# Altium integrated library EVPBB2A9B000.IntLib: 1 symbol
Pins are listed as number, name and electrical type; pins without a type are passive.

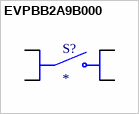
[diagram p0: symbol EVPBB2A9B000]

## EVPBB2A9B000
designator S?
Tactile Switch SPST-NO Top Actuated Surface Mount; MF: Panasonic; MP: EVPBB2A9B000; SnapEDA_Link: https://www.snapeda.com/parts/EVPBB2A9B000/Panasonic/view-part/?ref=snap; Package: None; Value: *; Check_prices: https://www.snapeda.com/parts/EVPBB2A9B000/Panasonic/view-part/?ref=eda
footprint SW_EVPBB2A9B000
pins: A1, A2, B1, B2